# EAGLE library part PMX42_56579-0576 (library LinkedLibrary52101)
USB - OTG, miniUSB Type AB, Molex
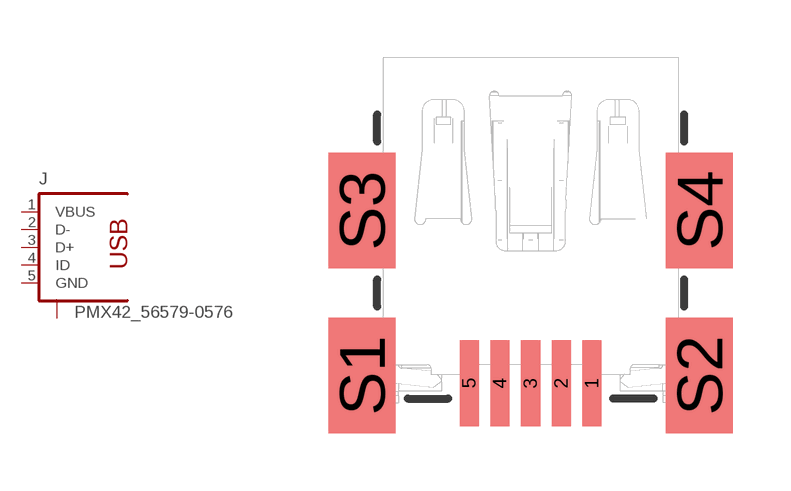
[diagram p13: symbol with the pads of PMX42_56579-0576; footprint PMX42_56579-0576]

Designator prefix J

## PMX42_56579-0576  [PMX42_56579-0576]
1  VBUS  pas
2  D-  pas
3  D+  pas
4  ID  pas
5  GND  pas
S1  S  pas
S2  S  pas
S3  S  pas
S4  S  pas

## Footprint PMX42_56579-0576 (pad centres in mm)
USB - OTG, miniUSB Type AB Molex
smd 0.5 x 2.25: 1 1.6,-0.2; 2 0.8,-0.2; 3 0,-0.2; 4 -0.8,-0.2; 5 -1.6,-0.2
smd 1.75 x 3: S1 -4.4,0; S2 4.4,0; S3 -4.4,4.3; S4 4.4,4.3